# Altium integrated library ON Semi Zener Diodes.IntLib: 1366 symbols (part 24 of 29)
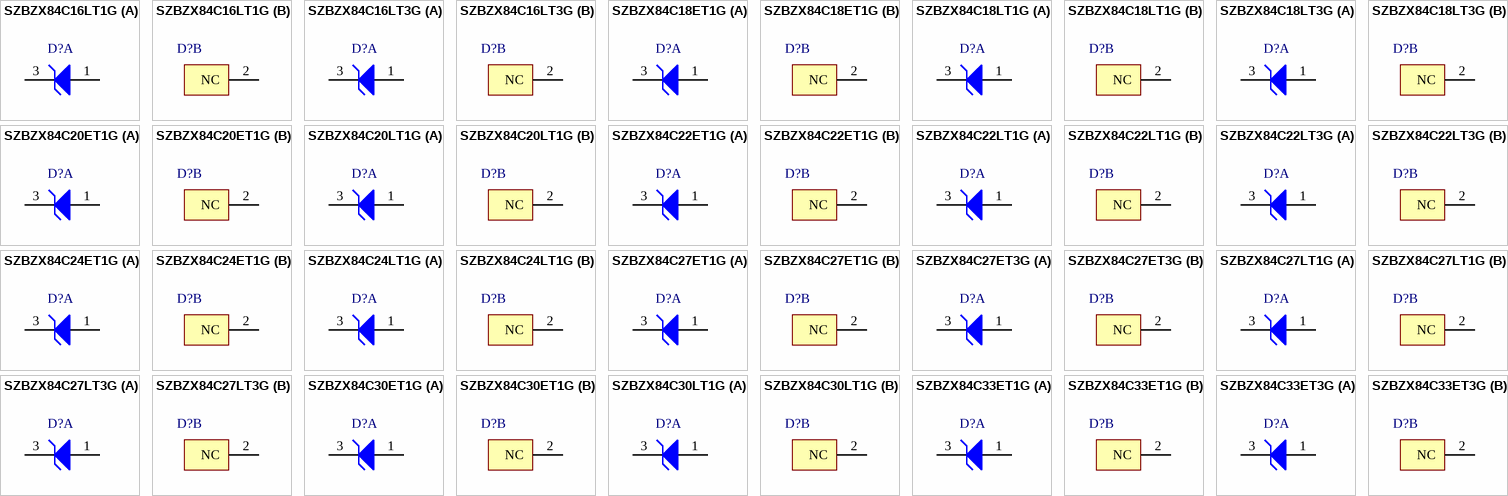
[diagram p67: symbols SZBZX84C16LT1G to SZBZX84C33ET3G]

## SZBZX84C22LT3G
designator D?
Zener Voltage Regulator, 225 mW, 3-Pin SOT-23, Pb-Free, Tape and Reel; Manufacturer: On Semiconductor; PartNumber: SZBZX84C22LT3G; DatasheetVersion: Rev. 17; PackageVersion: Rev. AP, 11/2009; PackageReference: SOT-23-3-318-08; PackageDescription: 3-Pin Small Outline Transistor, Body 2.92 x 1.3 mm, Pitch 0.95 mm; Supplier 1: Digi-Key; Supplier Part Number 1: SZBZX84C22LT3G-ND; Supplier 2: Mouser; Supplier Part Number 2: 863-SZBZX84C22LT3G; Packing: Tape and Reel; RoHS: Pb-Free; Mounting Technology: Surface Mount; ComponentLink1Description: Manufacturer URL; ComponentLink1URL: http://www.onsemi.com/; ComponentLink2Description: Datasheet; ComponentLink2URL: http://www.onsemi.com/pub_link/Collateral/BZX84C2V4LT1-D.PDF; ComponentLink3Description: Package Specification; ComponentLink3URL: http://www.onsemi.cn/pub_link/Collateral/318-08.PDF
footprint ONSC-SOT-23-3-318-08_V (SOT23, 3-Leads, Body 2.92x1.3mm, Pitch 0.95mm)
part A pins: 1 A, 3 K
part B pins: 2 NC

## SZBZX84C24ET1G
designator D?
Zener Voltage Regulator, 225 mW, 3-Pin SOT-23, Pb-Free, Tape and Reel; Manufacturer: On Semiconductor; PartNumber: SZBZX84C24ET1G; DatasheetVersion: Rev. 8; PackageVersion: Rev. AP, 11/2009; PackageReference: SOT-23-3-318-08; PackageDescription: 3-Pin Small Outline Transistor, Body 2.92 x 1.3 mm, Pitch 0.95 mm; Supplier 1: Digi-Key; Supplier Part Number 1: SZBZX84C24ET1G-ND; Supplier 2: Mouser; Supplier Part Number 2: 863-SZBZX84C24ET1G; Packing: Tape and Reel; RoHS: Pb-Free; Mounting Technology: Surface Mount; ComponentLink1Description: Manufacturer URL; ComponentLink1URL: http://www.onsemi.com/; ComponentLink2Description: Datasheet; ComponentLink2URL: http://www.onsemi.com/pub_link/Collateral/BZX84C2V4ET1-D.PDF; ComponentLink3Description: Package Specification; ComponentLink3URL: http://www.onsemi.cn/pub_link/Collateral/318-08.PDF
footprint ONSC-SOT-23-3-318-08_V (SOT23, 3-Leads, Body 2.92x1.3mm, Pitch 0.95mm)
part A pins: 1 A, 3 K
part B pins: 2 NC

## SZBZX84C24LT1G
designator D?
Zener Voltage Regulator, 225 mW, 3-Pin SOT-23, Pb-Free, Tape and Reel; Manufacturer: On Semiconductor; PartNumber: SZBZX84C24LT1G; DatasheetVersion: Rev. 17; PackageVersion: Rev. AP, 11/2009; PackageReference: SOT-23-3-318-08; PackageDescription: 3-Pin Small Outline Transistor, Body 2.92 x 1.3 mm, Pitch 0.95 mm; Supplier 1: Digi-Key; Supplier Part Number 1: SZBZX84C24LT1G-ND; Supplier 2: Mouser; Supplier Part Number 2: 863-SZBZX84C24LT1G; Packing: Tape and Reel; RoHS: Pb-Free; Mounting Technology: Surface Mount; ComponentLink1Description: Manufacturer URL; ComponentLink1URL: http://www.onsemi.com/; ComponentLink2Description: Datasheet; ComponentLink2URL: http://www.onsemi.com/pub_link/Collateral/BZX84C2V4LT1-D.PDF; ComponentLink3Description: Package Specification; ComponentLink3URL: http://www.onsemi.cn/pub_link/Collateral/318-08.PDF
footprint ONSC-SOT-23-3-318-08_V (SOT23, 3-Leads, Body 2.92x1.3mm, Pitch 0.95mm)
part A pins: 1 A, 3 K
part B pins: 2 NC

## SZBZX84C27ET1G
designator D?
Zener Voltage Regulator, 225 mW, 3-Pin SOT-23, Pb-Free, Tape and Reel; Manufacturer: On Semiconductor; PartNumber: SZBZX84C27ET1G; DatasheetVersion: Rev. 8; PackageVersion: Rev. AP, 11/2009; PackageReference: SOT-23-3-318-08; PackageDescription: 3-Pin Small Outline Transistor, Body 2.92 x 1.3 mm, Pitch 0.95 mm; Supplier 1: Digi-Key; Supplier Part Number 1: SZBZX84C27ET1G-ND; Supplier 2: Mouser; Supplier Part Number 2: 863-SZBZX84C27ET1G; Packing: Tape and Reel; RoHS: Pb-Free; Mounting Technology: Surface Mount; ComponentLink1Description: Manufacturer URL; ComponentLink1URL: http://www.onsemi.com/; ComponentLink2Description: Datasheet; ComponentLink2URL: http://www.onsemi.com/pub_link/Collateral/BZX84C2V4ET1-D.PDF; ComponentLink3Description: Package Specification; ComponentLink3URL: http://www.onsemi.cn/pub_link/Collateral/318-08.PDF
footprint ONSC-SOT-23-3-318-08_V (SOT23, 3-Leads, Body 2.92x1.3mm, Pitch 0.95mm)
part A pins: 1 A, 3 K
part B pins: 2 NC

## SZBZX84C27ET3G
designator D?
Zener Voltage Regulator, 225 mW, 3-Pin SOT-23, Pb-Free, Tape and Reel; Manufacturer: On Semiconductor; PartNumber: SZBZX84C27ET3G; DatasheetVersion: Rev. 8; PackageVersion: Rev. AP, 11/2009; PackageReference: SOT-23-3-318-08; PackageDescription: 3-Pin Small Outline Transistor, Body 2.92 x 1.3 mm, Pitch 0.95 mm; Supplier 1: Digi-Key; Supplier Part Number 1: SZBZX84C27ET3G-ND; Supplier 2: Mouser; Supplier Part Number 2: 863-SZBZX84C27ET3G; Packing: Tape and Reel; RoHS: Pb-Free; Mounting Technology: Surface Mount; ComponentLink1Description: Manufacturer URL; ComponentLink1URL: http://www.onsemi.com/; ComponentLink2Description: Datasheet; ComponentLink2URL: http://www.onsemi.com/pub_link/Collateral/BZX84C2V4ET1-D.PDF; ComponentLink3Description: Package Specification; ComponentLink3URL: http://www.onsemi.cn/pub_link/Collateral/318-08.PDF
footprint ONSC-SOT-23-3-318-08_V (SOT23, 3-Leads, Body 2.92x1.3mm, Pitch 0.95mm)
part A pins: 1 A, 3 K
part B pins: 2 NC

## SZBZX84C27LT1G
designator D?
Zener Voltage Regulator, 225 mW, 3-Pin SOT-23, Pb-Free, Tape and Reel; Manufacturer: On Semiconductor; PartNumber: SZBZX84C27LT1G; DatasheetVersion: Rev. 17; PackageVersion: Rev. AP, 11/2009; PackageReference: SOT-23-3-318-08; PackageDescription: 3-Pin Small Outline Transistor, Body 2.92 x 1.3 mm, Pitch 0.95 mm; Supplier 1: Digi-Key; Supplier Part Number 1: SZBZX84C27LT1G-ND; Supplier 2: Mouser; Supplier Part Number 2: 863-SZBZX84C27LT1G; Packing: Tape and Reel; RoHS: Pb-Free; Mounting Technology: Surface Mount; ComponentLink1Description: Manufacturer URL; ComponentLink1URL: http://www.onsemi.com/; ComponentLink2Description: Datasheet; ComponentLink2URL: http://www.onsemi.com/pub_link/Collateral/BZX84C2V4LT1-D.PDF; ComponentLink3Description: Package Specification; ComponentLink3URL: http://www.onsemi.cn/pub_link/Collateral/318-08.PDF
footprint ONSC-SOT-23-3-318-08_V (SOT23, 3-Leads, Body 2.92x1.3mm, Pitch 0.95mm)
part A pins: 1 A, 3 K
part B pins: 2 NC

## SZBZX84C27LT3G
designator D?
Zener Voltage Regulator, 225 mW, 3-Pin SOT-23, Pb-Free, Tape and Reel; Manufacturer: On Semiconductor; PartNumber: SZBZX84C27LT3G; DatasheetVersion: Rev. 17; PackageVersion: Rev. AP, 11/2009; PackageReference: SOT-23-3-318-08; PackageDescription: 3-Pin Small Outline Transistor, Body 2.92 x 1.3 mm, Pitch 0.95 mm; Supplier 1: Digi-Key; Supplier Part Number 1: SZBZX84C27LT3G-ND; Supplier 2: Mouser; Supplier Part Number 2: 863-SZBZX84C27LT3G; Packing: Tape and Reel; RoHS: Pb-Free; Mounting Technology: Surface Mount; ComponentLink1Description: Manufacturer URL; ComponentLink1URL: http://www.onsemi.com/; ComponentLink2Description: Datasheet; ComponentLink2URL: http://www.onsemi.com/pub_link/Collateral/BZX84C2V4LT1-D.PDF; ComponentLink3Description: Package Specification; ComponentLink3URL: http://www.onsemi.cn/pub_link/Collateral/318-08.PDF
footprint ONSC-SOT-23-3-318-08_V (SOT23, 3-Leads, Body 2.92x1.3mm, Pitch 0.95mm)
part A pins: 1 A, 3 K
part B pins: 2 NC

## SZBZX84C30ET1G
designator D?
Zener Voltage Regulator, 225 mW, 3-Pin SOT-23, Pb-Free, Tape and Reel; Manufacturer: On Semiconductor; PartNumber: SZBZX84C30ET1G; DatasheetVersion: Rev. 8; PackageVersion: Rev. AP, 11/2009; PackageReference: SOT-23-3-318-08; PackageDescription: 3-Pin Small Outline Transistor, Body 2.92 x 1.3 mm, Pitch 0.95 mm; Supplier 1: Digi-Key; Supplier Part Number 1: SZBZX84C30ET1G-ND; Supplier 2: Mouser; Supplier Part Number 2: 863-SZBZX84C30ET1G; Packing: Tape and Reel; RoHS: Pb-Free; Mounting Technology: Surface Mount; ComponentLink1Description: Manufacturer URL; ComponentLink1URL: http://www.onsemi.com/; ComponentLink2Description: Datasheet; ComponentLink2URL: http://www.onsemi.com/pub_link/Collateral/BZX84C2V4ET1-D.PDF; ComponentLink3Description: Package Specification; ComponentLink3URL: http://www.onsemi.cn/pub_link/Collateral/318-08.PDF
footprint ONSC-SOT-23-3-318-08_V (SOT23, 3-Leads, Body 2.92x1.3mm, Pitch 0.95mm)
part A pins: 1 A, 3 K
part B pins: 2 NC

## SZBZX84C30LT1G
designator D?
Zener Voltage Regulator, 225 mW, 3-Pin SOT-23, Pb-Free, Tape and Reel; Manufacturer: On Semiconductor; PartNumber: SZBZX84C30LT1G; DatasheetVersion: Rev. 17; PackageVersion: Rev. AP, 11/2009; PackageReference: SOT-23-3-318-08; PackageDescription: 3-Pin Small Outline Transistor, Body 2.92 x 1.3 mm, Pitch 0.95 mm; Supplier 1: Digi-Key; Supplier Part Number 1: SZBZX84C30LT1G-ND; Supplier 2: Mouser; Supplier Part Number 2: 863-SZBZX84C30LT1G; Packing: Tape and Reel; RoHS: Pb-Free; Mounting Technology: Surface Mount; ComponentLink1Description: Manufacturer URL; ComponentLink1URL: http://www.onsemi.com/; ComponentLink2Description: Datasheet; ComponentLink2URL: http://www.onsemi.com/pub_link/Collateral/BZX84C2V4LT1-D.PDF; ComponentLink3Description: Package Specification; ComponentLink3URL: http://www.onsemi.cn/pub_link/Collateral/318-08.PDF
footprint ONSC-SOT-23-3-318-08_V (SOT23, 3-Leads, Body 2.92x1.3mm, Pitch 0.95mm)
part A pins: 1 A, 3 K
part B pins: 2 NC

## SZBZX84C33ET1G
designator D?
Zener Voltage Regulator, 225 mW, 3-Pin SOT-23, Pb-Free, Tape and Reel; Manufacturer: On Semiconductor; PartNumber: SZBZX84C33ET1G; DatasheetVersion: Rev. 8; PackageVersion: Rev. AP, 11/2009; PackageReference: SOT-23-3-318-08; PackageDescription: 3-Pin Small Outline Transistor, Body 2.92 x 1.3 mm, Pitch 0.95 mm; Supplier 1: Digi-Key; Supplier Part Number 1: SZBZX84C33ET1G-ND; Supplier 2: Mouser; Supplier Part Number 2: 863-SZBZX84C33ET1G; Packing: Tape and Reel; RoHS: Pb-Free; Mounting Technology: Surface Mount; ComponentLink1Description: Manufacturer URL; ComponentLink1URL: http://www.onsemi.com/; ComponentLink2Description: Datasheet; ComponentLink2URL: http://www.onsemi.com/pub_link/Collateral/BZX84C2V4ET1-D.PDF; ComponentLink3Description: Package Specification; ComponentLink3URL: http://www.onsemi.cn/pub_link/Collateral/318-08.PDF
footprint ONSC-SOT-23-3-318-08_V (SOT23, 3-Leads, Body 2.92x1.3mm, Pitch 0.95mm)
part A pins: 1 A, 3 K
part B pins: 2 NC

## SZBZX84C33ET3G
designator D?
Zener Voltage Regulator, 225 mW, 3-Pin SOT-23, Pb-Free, Tape and Reel; Manufacturer: On Semiconductor; PartNumber: SZBZX84C33ET3G; DatasheetVersion: Rev. 8; PackageVersion: Rev. AP, 11/2009; PackageReference: SOT-23-3-318-08; PackageDescription: 3-Pin Small Outline Transistor, Body 2.92 x 1.3 mm, Pitch 0.95 mm; Supplier 1: Digi-Key; Supplier Part Number 1: SZBZX84C33ET3G-ND; Supplier 2: Mouser; Supplier Part Number 2: 863-SZBZX84C33ET3G; Packing: Tape and Reel; RoHS: Pb-Free; Mounting Technology: Surface Mount; ComponentLink1Description: Manufacturer URL; ComponentLink1URL: http://www.onsemi.com/; ComponentLink2Description: Datasheet; ComponentLink2URL: http://www.onsemi.com/pub_link/Collateral/BZX84C2V4ET1-D.PDF; ComponentLink3Description: Package Specification; ComponentLink3URL: http://www.onsemi.cn/pub_link/Collateral/318-08.PDF
footprint ONSC-SOT-23-3-318-08_V (SOT23, 3-Leads, Body 2.92x1.3mm, Pitch 0.95mm)
part A pins: 1 A, 3 K
part B pins: 2 NC

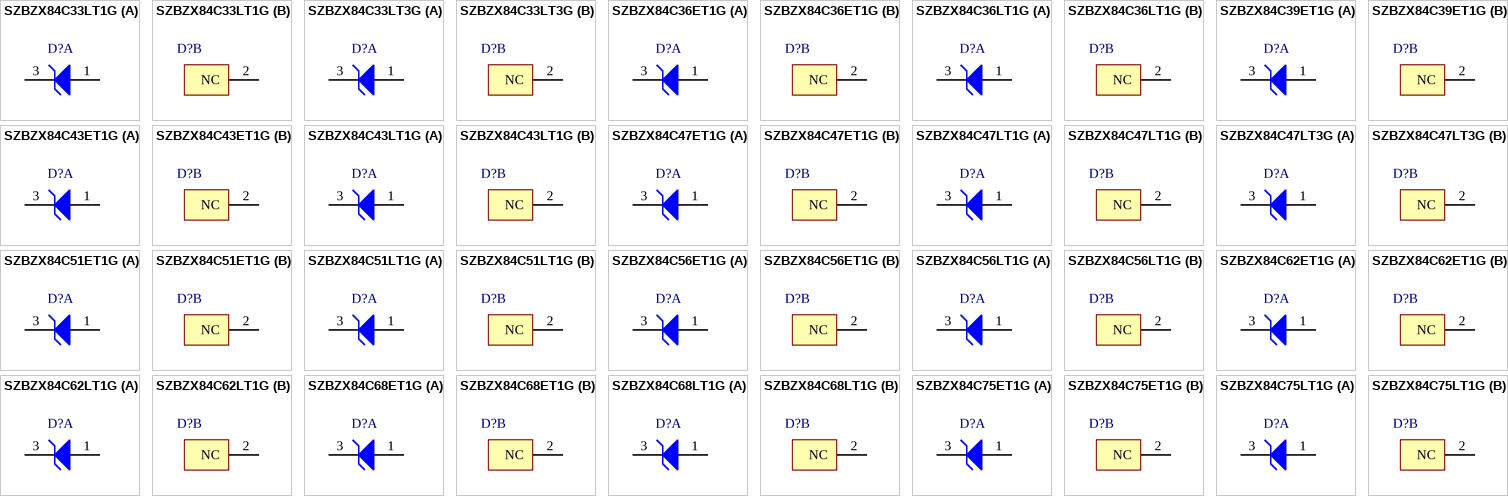
[diagram p35: symbols SZBZX84C33LT1G to SZBZX84C75LT1G]

## SZBZX84C33LT1G
designator D?
Zener Voltage Regulator, 225 mW, 3-Pin SOT-23, Pb-Free, Tape and Reel; Manufacturer: On Semiconductor; PartNumber: SZBZX84C33LT1G; DatasheetVersion: Rev. 17; PackageVersion: Rev. AP, 11/2009; PackageReference: SOT-23-3-318-08; PackageDescription: 3-Pin Small Outline Transistor, Body 2.92 x 1.3 mm, Pitch 0.95 mm; Supplier 1: Digi-Key; Supplier Part Number 1: SZBZX84C33LT1G-ND; Supplier 2: Mouser; Supplier Part Number 2: 863-SZBZX84C33LT1G; Packing: Tape and Reel; RoHS: Pb-Free; Mounting Technology: Surface Mount; ComponentLink1Description: Manufacturer URL; ComponentLink1URL: http://www.onsemi.com/; ComponentLink2Description: Datasheet; ComponentLink2URL: http://www.onsemi.com/pub_link/Collateral/BZX84C2V4LT1-D.PDF; ComponentLink3Description: Package Specification; ComponentLink3URL: http://www.onsemi.cn/pub_link/Collateral/318-08.PDF
footprint ONSC-SOT-23-3-318-08_V (SOT23, 3-Leads, Body 2.92x1.3mm, Pitch 0.95mm)
part A pins: 1 A, 3 K
part B pins: 2 NC

## SZBZX84C33LT3G
designator D?
Zener Voltage Regulator, 225 mW, 3-Pin SOT-23, Pb-Free, Tape and Reel; Manufacturer: On Semiconductor; PartNumber: SZBZX84C33LT3G; DatasheetVersion: Rev. 17; PackageVersion: Rev. AP, 11/2009; PackageReference: SOT-23-3-318-08; PackageDescription: 3-Pin Small Outline Transistor, Body 2.92 x 1.3 mm, Pitch 0.95 mm; Supplier 1: Digi-Key; Supplier Part Number 1: SZBZX84C33LT3G-ND; Supplier 2: Mouser; Supplier Part Number 2: 863-SZBZX84C33LT3G; Packing: Tape and Reel; RoHS: Pb-Free; Mounting Technology: Surface Mount; ComponentLink1Description: Manufacturer URL; ComponentLink1URL: http://www.onsemi.com/; ComponentLink2Description: Datasheet; ComponentLink2URL: http://www.onsemi.com/pub_link/Collateral/BZX84C2V4LT1-D.PDF; ComponentLink3Description: Package Specification; ComponentLink3URL: http://www.onsemi.cn/pub_link/Collateral/318-08.PDF
footprint ONSC-SOT-23-3-318-08_V (SOT23, 3-Leads, Body 2.92x1.3mm, Pitch 0.95mm)
part A pins: 1 A, 3 K
part B pins: 2 NC

## SZBZX84C36ET1G
designator D?
Zener Voltage Regulator, 225 mW, 3-Pin SOT-23, Pb-Free, Tape and Reel; Manufacturer: On Semiconductor; PartNumber: SZBZX84C36ET1G; DatasheetVersion: Rev. 8; PackageVersion: Rev. AP, 11/2009; PackageReference: SOT-23-3-318-08; PackageDescription: 3-Pin Small Outline Transistor, Body 2.92 x 1.3 mm, Pitch 0.95 mm; Supplier 1: Digi-Key; Supplier Part Number 1: SZBZX84C36ET1G-ND; Supplier 2: Mouser; Supplier Part Number 2: 863-SZBZX84C36ET1G; Packing: Tape and Reel; RoHS: Pb-Free; Mounting Technology: Surface Mount; ComponentLink1Description: Manufacturer URL; ComponentLink1URL: http://www.onsemi.com/; ComponentLink2Description: Datasheet; ComponentLink2URL: http://www.onsemi.com/pub_link/Collateral/BZX84C2V4ET1-D.PDF; ComponentLink3Description: Package Specification; ComponentLink3URL: http://www.onsemi.cn/pub_link/Collateral/318-08.PDF
footprint ONSC-SOT-23-3-318-08_V (SOT23, 3-Leads, Body 2.92x1.3mm, Pitch 0.95mm)
part A pins: 1 A, 3 K
part B pins: 2 NC

## SZBZX84C36LT1G
designator D?
Zener Voltage Regulator, 225 mW, 3-Pin SOT-23, Pb-Free, Tape and Reel; Manufacturer: On Semiconductor; PartNumber: SZBZX84C36LT1G; DatasheetVersion: Rev. 17; PackageVersion: Rev. AP, 11/2009; PackageReference: SOT-23-3-318-08; PackageDescription: 3-Pin Small Outline Transistor, Body 2.92 x 1.3 mm, Pitch 0.95 mm; Supplier 1: Digi-Key; Supplier Part Number 1: SZBZX84C36LT1G-ND; Supplier 2: Newark; Supplier Part Number 2: 76T7532; Supplier 3: Mouser; Supplier Part Number 3: 863-SZBZX84C36LT1G; Packing: Tape and Reel; RoHS: Pb-Free; Mounting Technology: Surface Mount; ComponentLink1Description: Manufacturer URL; ComponentLink1URL: http://www.onsemi.com/; ComponentLink2Description: Datasheet; ComponentLink2URL: http://www.onsemi.com/pub_link/Collateral/BZX84C2V4LT1-D.PDF; ComponentLink3Description: Package Specification; ComponentLink3URL: http://www.onsemi.cn/pub_link/Collateral/318-08.PDF
footprint ONSC-SOT-23-3-318-08_V (SOT23, 3-Leads, Body 2.92x1.3mm, Pitch 0.95mm)
part A pins: 1 A, 3 K
part B pins: 2 NC

## SZBZX84C39ET1G
designator D?
Zener Voltage Regulator, 225 mW, 3-Pin SOT-23, Pb-Free, Tape and Reel; Manufacturer: On Semiconductor; PartNumber: SZBZX84C39ET1G; DatasheetVersion: Rev. 8; PackageVersion: Rev. AP, 11/2009; PackageReference: SOT-23-3-318-08; PackageDescription: 3-Pin Small Outline Transistor, Body 2.92 x 1.3 mm, Pitch 0.95 mm; Supplier 1: Digi-Key; Supplier Part Number 1: SZBZX84C39ET1G-ND; Supplier 2: Mouser; Supplier Part Number 2: 863-SZBZX84C39ET1G; Packing: Tape and Reel; RoHS: Pb-Free; Mounting Technology: Surface Mount; ComponentLink1Description: Manufacturer URL; ComponentLink1URL: http://www.onsemi.com/; ComponentLink2Description: Datasheet; ComponentLink2URL: http://www.onsemi.com/pub_link/Collateral/BZX84C2V4ET1-D.PDF; ComponentLink3Description: Package Specification; ComponentLink3URL: http://www.onsemi.cn/pub_link/Collateral/318-08.PDF
footprint ONSC-SOT-23-3-318-08_V (SOT23, 3-Leads, Body 2.92x1.3mm, Pitch 0.95mm)
part A pins: 1 A, 3 K
part B pins: 2 NC

## SZBZX84C43ET1G
designator D?
Zener Voltage Regulator, 225 mW, 3-Pin SOT-23, Pb-Free, Tape and Reel; Manufacturer: On Semiconductor; PartNumber: SZBZX84C43ET1G; DatasheetVersion: Rev. 8; PackageVersion: Rev. AP, 11/2009; PackageReference: SOT-23-3-318-08; PackageDescription: 3-Pin Small Outline Transistor, Body 2.92 x 1.3 mm, Pitch 0.95 mm; Supplier 1: Digi-Key; Supplier Part Number 1: SZBZX84C43ET1G-ND; Supplier 2: Mouser; Supplier Part Number 2: 863-SZBZX84C43ET1G; Packing: Tape and Reel; RoHS: Pb-Free; Mounting Technology: Surface Mount; ComponentLink1Description: Manufacturer URL; ComponentLink1URL: http://www.onsemi.com/; ComponentLink2Description: Datasheet; ComponentLink2URL: http://www.onsemi.com/pub_link/Collateral/BZX84C2V4ET1-D.PDF; ComponentLink3Description: Package Specification; ComponentLink3URL: http://www.onsemi.cn/pub_link/Collateral/318-08.PDF
footprint ONSC-SOT-23-3-318-08_V (SOT23, 3-Leads, Body 2.92x1.3mm, Pitch 0.95mm)
part A pins: 1 A, 3 K
part B pins: 2 NC

## SZBZX84C43LT1G
designator D?
Zener Voltage Regulator, 225 mW, 3-Pin SOT-23, Pb-Free, Tape and Reel; Manufacturer: On Semiconductor; PartNumber: SZBZX84C43LT1G; DatasheetVersion: Rev. 17; PackageVersion: Rev. AP, 11/2009; PackageReference: SOT-23-3-318-08; PackageDescription: 3-Pin Small Outline Transistor, Body 2.92 x 1.3 mm, Pitch 0.95 mm; Supplier 1: Digi-Key; Supplier Part Number 1: SZBZX84C43LT1G-ND; Supplier 2: Mouser; Supplier Part Number 2: 863-SZBZX84C43LT1G; Packing: Tape and Reel; RoHS: Pb-Free; Mounting Technology: Surface Mount; ComponentLink1Description: Manufacturer URL; ComponentLink1URL: http://www.onsemi.com/; ComponentLink2Description: Datasheet; ComponentLink2URL: http://www.onsemi.com/pub_link/Collateral/BZX84C2V4LT1-D.PDF; ComponentLink3Description: Package Specification; ComponentLink3URL: http://www.onsemi.cn/pub_link/Collateral/318-08.PDF
footprint ONSC-SOT-23-3-318-08_V (SOT23, 3-Leads, Body 2.92x1.3mm, Pitch 0.95mm)
part A pins: 1 A, 3 K
part B pins: 2 NC

## SZBZX84C47ET1G
designator D?
Zener Voltage Regulator, 225 mW, 3-Pin SOT-23, Pb-Free, Tape and Reel; Manufacturer: On Semiconductor; PartNumber: SZBZX84C47ET1G; DatasheetVersion: Rev. 8; PackageVersion: Rev. AP, 11/2009; PackageReference: SOT-23-3-318-08; PackageDescription: 3-Pin Small Outline Transistor, Body 2.92 x 1.3 mm, Pitch 0.95 mm; Supplier 1: Digi-Key; Supplier Part Number 1: SZBZX84C47ET1G-ND; Supplier 2: Mouser; Supplier Part Number 2: 863-SZBZX84C47ET1G; Packing: Tape and Reel; RoHS: Pb-Free; Mounting Technology: Surface Mount; ComponentLink1Description: Manufacturer URL; ComponentLink1URL: http://www.onsemi.com/; ComponentLink2Description: Datasheet; ComponentLink2URL: http://www.onsemi.com/pub_link/Collateral/BZX84C2V4ET1-D.PDF; ComponentLink3Description: Package Specification; ComponentLink3URL: http://www.onsemi.cn/pub_link/Collateral/318-08.PDF
footprint ONSC-SOT-23-3-318-08_V (SOT23, 3-Leads, Body 2.92x1.3mm, Pitch 0.95mm)
part A pins: 1 A, 3 K
part B pins: 2 NC

## SZBZX84C47LT1G
designator D?
Zener Voltage Regulator, 225 mW, 3-Pin SOT-23, Pb-Free, Tape and Reel; Manufacturer: On Semiconductor; PartNumber: SZBZX84C47LT1G; DatasheetVersion: Rev. 17; PackageVersion: Rev. AP, 11/2009; PackageReference: SOT-23-3-318-08; PackageDescription: 3-Pin Small Outline Transistor, Body 2.92 x 1.3 mm, Pitch 0.95 mm; Supplier 1: Digi-Key; Supplier Part Number 1: SZBZX84C47LT1G-ND; Supplier 2: Mouser; Supplier Part Number 2: 863-SZBZX84C47LT1G; Packing: Tape and Reel; RoHS: Pb-Free; Mounting Technology: Surface Mount; ComponentLink1Description: Manufacturer URL; ComponentLink1URL: http://www.onsemi.com/; ComponentLink2Description: Datasheet; ComponentLink2URL: http://www.onsemi.com/pub_link/Collateral/BZX84C2V4LT1-D.PDF; ComponentLink3Description: Package Specification; ComponentLink3URL: http://www.onsemi.cn/pub_link/Collateral/318-08.PDF
footprint ONSC-SOT-23-3-318-08_V (SOT23, 3-Leads, Body 2.92x1.3mm, Pitch 0.95mm)
part A pins: 1 A, 3 K
part B pins: 2 NC

## SZBZX84C47LT3G
designator D?
Zener Voltage Regulator, 225 mW, 3-Pin SOT-23, Pb-Free, Tape and Reel; Manufacturer: On Semiconductor; PartNumber: SZBZX84C47LT3G; DatasheetVersion: Rev. 17; PackageVersion: Rev. AP, 11/2009; PackageReference: SOT-23-3-318-08; PackageDescription: 3-Pin Small Outline Transistor, Body 2.92 x 1.3 mm, Pitch 0.95 mm; Supplier 1: Digi-Key; Supplier Part Number 1: SZBZX84C47LT3G-ND; Supplier 2: Mouser; Supplier Part Number 2: 863-SZBZX84C47LT3G; Packing: Tape and Reel; RoHS: Pb-Free; Mounting Technology: Surface Mount; ComponentLink1Description: Manufacturer URL; ComponentLink1URL: http://www.onsemi.com/; ComponentLink2Description: Datasheet; ComponentLink2URL: http://www.onsemi.com/pub_link/Collateral/BZX84C2V4LT1-D.PDF; ComponentLink3Description: Package Specification; ComponentLink3URL: http://www.onsemi.cn/pub_link/Collateral/318-08.PDF
footprint ONSC-SOT-23-3-318-08_V (SOT23, 3-Leads, Body 2.92x1.3mm, Pitch 0.95mm)
part A pins: 1 A, 3 K
part B pins: 2 NC

## SZBZX84C51ET1G
designator D?
Zener Voltage Regulator, 225 mW, 3-Pin SOT-23, Pb-Free, Tape and Reel; Manufacturer: On Semiconductor; PartNumber: SZBZX84C51ET1G; DatasheetVersion: Rev. 8; PackageVersion: Rev. AP, 11/2009; PackageReference: SOT-23-3-318-08; PackageDescription: 3-Pin Small Outline Transistor, Body 2.92 x 1.3 mm, Pitch 0.95 mm; Supplier 1: Digi-Key; Supplier Part Number 1: SZBZX84C51ET1G-ND; Supplier 2: Mouser; Supplier Part Number 2: 863-SZBZX84C51ET1G; Packing: Tape and Reel; RoHS: Pb-Free; Mounting Technology: Surface Mount; ComponentLink1Description: Manufacturer URL; ComponentLink1URL: http://www.onsemi.com/; ComponentLink2Description: Datasheet; ComponentLink2URL: http://www.onsemi.com/pub_link/Collateral/BZX84C2V4ET1-D.PDF; ComponentLink3Description: Package Specification; ComponentLink3URL: http://www.onsemi.cn/pub_link/Collateral/318-08.PDF
footprint ONSC-SOT-23-3-318-08_V (SOT23, 3-Leads, Body 2.92x1.3mm, Pitch 0.95mm)
part A pins: 1 A, 3 K
part B pins: 2 NC

## SZBZX84C51LT1G
designator D?
Zener Voltage Regulator, 225 mW, 3-Pin SOT-23, Pb-Free, Tape and Reel; Manufacturer: On Semiconductor; PartNumber: SZBZX84C51LT1G; DatasheetVersion: Rev. 17; PackageVersion: Rev. AP, 11/2009; PackageReference: SOT-23-3-318-08; PackageDescription: 3-Pin Small Outline Transistor, Body 2.92 x 1.3 mm, Pitch 0.95 mm; Supplier 1: Digi-Key; Supplier Part Number 1: SZBZX84C51LT1G-ND; Supplier 2: Newark; Supplier Part Number 2: 76T7555; Supplier 3: Mouser; Supplier Part Number 3: 863-SZBZX84C51LT1G; Packing: Tape and Reel; RoHS: Pb-Free; Mounting Technology: Surface Mount; ComponentLink1Description: Manufacturer URL; ComponentLink1URL: http://www.onsemi.com/; ComponentLink2Description: Datasheet; ComponentLink2URL: http://www.onsemi.com/pub_link/Collateral/BZX84C2V4LT1-D.PDF; ComponentLink3Description: Package Specification; ComponentLink3URL: http://www.onsemi.cn/pub_link/Collateral/318-08.PDF
footprint ONSC-SOT-23-3-318-08_V (SOT23, 3-Leads, Body 2.92x1.3mm, Pitch 0.95mm)
part A pins: 1 A, 3 K
part B pins: 2 NC

## SZBZX84C56ET1G
designator D?
Zener Voltage Regulator, 225 mW, 3-Pin SOT-23, Pb-Free, Tape and Reel; Manufacturer: On Semiconductor; PartNumber: SZBZX84C56ET1G; DatasheetVersion: Rev. 8; PackageVersion: Rev. AP, 11/2009; PackageReference: SOT-23-3-318-08; PackageDescription: 3-Pin Small Outline Transistor, Body 2.92 x 1.3 mm, Pitch 0.95 mm; Supplier 1: Digi-Key; Supplier Part Number 1: SZBZX84C56ET1G-ND; Supplier 2: Mouser; Supplier Part Number 2: 863-SZBZX84C56ET1G; Packing: Tape and Reel; RoHS: Pb-Free; Mounting Technology: Surface Mount; ComponentLink1Description: Manufacturer URL; ComponentLink1URL: http://www.onsemi.com/; ComponentLink2Description: Datasheet; ComponentLink2URL: http://www.onsemi.com/pub_link/Collateral/BZX84C2V4ET1-D.PDF; ComponentLink3Description: Package Specification; ComponentLink3URL: http://www.onsemi.cn/pub_link/Collateral/318-08.PDF
footprint ONSC-SOT-23-3-318-08_V (SOT23, 3-Leads, Body 2.92x1.3mm, Pitch 0.95mm)
part A pins: 1 A, 3 K
part B pins: 2 NC

## SZBZX84C56LT1G
designator D?
Zener Voltage Regulator, 225 mW, 3-Pin SOT-23, Pb-Free, Tape and Reel; Manufacturer: On Semiconductor; PartNumber: SZBZX84C56LT1G; DatasheetVersion: Rev. 17; PackageVersion: Rev. AP, 11/2009; PackageReference: SOT-23-3-318-08; PackageDescription: 3-Pin Small Outline Transistor, Body 2.92 x 1.3 mm, Pitch 0.95 mm; Supplier 1: Digi-Key; Supplier Part Number 1: SZBZX84C56LT1G-ND; Supplier 2: Newark; Supplier Part Number 2: 76T7557; Supplier 3: Mouser; Supplier Part Number 3: 863-SZBZX84C56LT1G; Packing: Tape and Reel; RoHS: Pb-Free; Mounting Technology: Surface Mount; ComponentLink1Description: Manufacturer URL; ComponentLink1URL: http://www.onsemi.com/; ComponentLink2Description: Datasheet; ComponentLink2URL: http://www.onsemi.com/pub_link/Collateral/BZX84C2V4LT1-D.PDF; ComponentLink3Description: Package Specification; ComponentLink3URL: http://www.onsemi.cn/pub_link/Collateral/318-08.PDF
footprint ONSC-SOT-23-3-318-08_V (SOT23, 3-Leads, Body 2.92x1.3mm, Pitch 0.95mm)
part A pins: 1 A, 3 K
part B pins: 2 NC

## SZBZX84C62ET1G
designator D?
Zener Voltage Regulator, 225 mW, 3-Pin SOT-23, Pb-Free, Tape and Reel; Manufacturer: On Semiconductor; PartNumber: SZBZX84C62ET1G; DatasheetVersion: Rev. 8; PackageVersion: Rev. AP, 11/2009; PackageReference: SOT-23-3-318-08; PackageDescription: 3-Pin Small Outline Transistor, Body 2.92 x 1.3 mm, Pitch 0.95 mm; Supplier 1: Digi-Key; Supplier Part Number 1: SZBZX84C62ET1G-ND; Supplier 2: Mouser; Supplier Part Number 2: 863-SZBZX84C62ET1G; Packing: Tape and Reel; RoHS: Pb-Free; Mounting Technology: Surface Mount; ComponentLink1Description: Manufacturer URL; ComponentLink1URL: http://www.onsemi.com/; ComponentLink2Description: Datasheet; ComponentLink2URL: http://www.onsemi.com/pub_link/Collateral/BZX84C2V4ET1-D.PDF; ComponentLink3Description: Package Specification; ComponentLink3URL: http://www.onsemi.cn/pub_link/Collateral/318-08.PDF
footprint ONSC-SOT-23-3-318-08_V (SOT23, 3-Leads, Body 2.92x1.3mm, Pitch 0.95mm)
part A pins: 1 A, 3 K
part B pins: 2 NC

## SZBZX84C62LT1G
designator D?
Zener Voltage Regulator, 225 mW, 3-Pin SOT-23, Pb-Free, Tape and Reel; Manufacturer: On Semiconductor; PartNumber: SZBZX84C62LT1G; DatasheetVersion: Rev. 17; PackageVersion: Rev. AP, 11/2009; PackageReference: SOT-23-3-318-08; PackageDescription: 3-Pin Small Outline Transistor, Body 2.92 x 1.3 mm, Pitch 0.95 mm; Supplier 1: Digi-Key; Supplier Part Number 1: SZBZX84C62LT1G-ND; Supplier 2: Mouser; Supplier Part Number 2: 863-SZBZX84C62LT1G; Packing: Tape and Reel; RoHS: Pb-Free; Mounting Technology: Surface Mount; ComponentLink1Description: Manufacturer URL; ComponentLink1URL: http://www.onsemi.com/; ComponentLink2Description: Datasheet; ComponentLink2URL: http://www.onsemi.com/pub_link/Collateral/BZX84C2V4LT1-D.PDF; ComponentLink3Description: Package Specification; ComponentLink3URL: http://www.onsemi.cn/pub_link/Collateral/318-08.PDF
footprint ONSC-SOT-23-3-318-08_V (SOT23, 3-Leads, Body 2.92x1.3mm, Pitch 0.95mm)
part A pins: 1 A, 3 K
part B pins: 2 NC

## SZBZX84C68ET1G
designator D?
Zener Voltage Regulator, 225 mW, 3-Pin SOT-23, Pb-Free, Tape and Reel; Manufacturer: On Semiconductor; PartNumber: SZBZX84C68ET1G; DatasheetVersion: Rev. 8; PackageVersion: Rev. AP, 11/2009; PackageReference: SOT-23-3-318-08; PackageDescription: 3-Pin Small Outline Transistor, Body 2.92 x 1.3 mm, Pitch 0.95 mm; Supplier 1: Digi-Key; Supplier Part Number 1: SZBZX84C68ET1G-ND; Supplier 2: Mouser; Supplier Part Number 2: 863-SZBZX84C68ET1G; Packing: Tape and Reel; RoHS: Pb-Free; Mounting Technology: Surface Mount; ComponentLink1Description: Manufacturer URL; ComponentLink1URL: http://www.onsemi.com/; ComponentLink2Description: Datasheet; ComponentLink2URL: http://www.onsemi.com/pub_link/Collateral/BZX84C2V4ET1-D.PDF; ComponentLink3Description: Package Specification; ComponentLink3URL: http://www.onsemi.cn/pub_link/Collateral/318-08.PDF
footprint ONSC-SOT-23-3-318-08_V (SOT23, 3-Leads, Body 2.92x1.3mm, Pitch 0.95mm)
part A pins: 1 A, 3 K
part B pins: 2 NC

## SZBZX84C68LT1G
designator D?
Zener Voltage Regulator, 225 mW, 3-Pin SOT-23, Pb-Free, Tape and Reel; Manufacturer: On Semiconductor; PartNumber: SZBZX84C68LT1G; DatasheetVersion: Rev. 17; PackageVersion: Rev. AP, 11/2009; PackageReference: SOT-23-3-318-08; PackageDescription: 3-Pin Small Outline Transistor, Body 2.92 x 1.3 mm, Pitch 0.95 mm; Supplier 1: Digi-Key; Supplier Part Number 1: SZBZX84C68LT1G-ND; Supplier 2: Mouser; Supplier Part Number 2: 863-SZBZX84C68LT1G; Packing: Tape and Reel; RoHS: Pb-Free; Mounting Technology: Surface Mount; ComponentLink1Description: Manufacturer URL; ComponentLink1URL: http://www.onsemi.com/; ComponentLink2Description: Datasheet; ComponentLink2URL: http://www.onsemi.com/pub_link/Collateral/BZX84C2V4LT1-D.PDF; ComponentLink3Description: Package Specification; ComponentLink3URL: http://www.onsemi.cn/pub_link/Collateral/318-08.PDF
footprint ONSC-SOT-23-3-318-08_V (SOT23, 3-Leads, Body 2.92x1.3mm, Pitch 0.95mm)
part A pins: 1 A, 3 K
part B pins: 2 NC

## SZBZX84C75ET1G
designator D?
Zener Voltage Regulator, 225 mW, 3-Pin SOT-23, Pb-Free, Tape and Reel; Manufacturer: On Semiconductor; PartNumber: SZBZX84C75ET1G; DatasheetVersion: Rev. 8; PackageVersion: Rev. AP, 11/2009; PackageReference: SOT-23-3-318-08; PackageDescription: 3-Pin Small Outline Transistor, Body 2.92 x 1.3 mm, Pitch 0.95 mm; Supplier 1: Digi-Key; Supplier Part Number 1: SZBZX84C75ET1G-ND; Supplier 2: Mouser; Supplier Part Number 2: 863-SZBZX84C75ET1G; Packing: Tape and Reel; RoHS: Pb-Free; Mounting Technology: Surface Mount; ComponentLink1Description: Manufacturer URL; ComponentLink1URL: http://www.onsemi.com/; ComponentLink2Description: Datasheet; ComponentLink2URL: http://www.onsemi.com/pub_link/Collateral/BZX84C2V4ET1-D.PDF; ComponentLink3Description: Package Specification; ComponentLink3URL: http://www.onsemi.cn/pub_link/Collateral/318-08.PDF
footprint ONSC-SOT-23-3-318-08_V (SOT23, 3-Leads, Body 2.92x1.3mm, Pitch 0.95mm)
part A pins: 1 A, 3 K
part B pins: 2 NC

## SZBZX84C75LT1G
designator D?
Zener Voltage Regulator, 225 mW, 3-Pin SOT-23, Pb-Free, Tape and Reel; Manufacturer: On Semiconductor; PartNumber: SZBZX84C75LT1G; DatasheetVersion: Rev. 17; PackageVersion: Rev. AP, 11/2009; PackageReference: SOT-23-3-318-08; PackageDescription: 3-Pin Small Outline Transistor, Body 2.92 x 1.3 mm, Pitch 0.95 mm; Supplier 1: Digi-Key; Supplier Part Number 1: SZBZX84C75LT1G-ND; Supplier 2: Mouser; Supplier Part Number 2: 863-SZBZX84C75LT1G; Packing: Tape and Reel; RoHS: Pb-Free; Mounting Technology: Surface Mount; ComponentLink1Description: Manufacturer URL; ComponentLink1URL: http://www.onsemi.com/; ComponentLink2Description: Datasheet; ComponentLink2URL: http://www.onsemi.com/pub_link/Collateral/BZX84C2V4LT1-D.PDF; ComponentLink3Description: Package Specification; ComponentLink3URL: http://www.onsemi.cn/pub_link/Collateral/318-08.PDF
footprint ONSC-SOT-23-3-318-08_V (SOT23, 3-Leads, Body 2.92x1.3mm, Pitch 0.95mm)
part A pins: 1 A, 3 K
part B pins: 2 NC

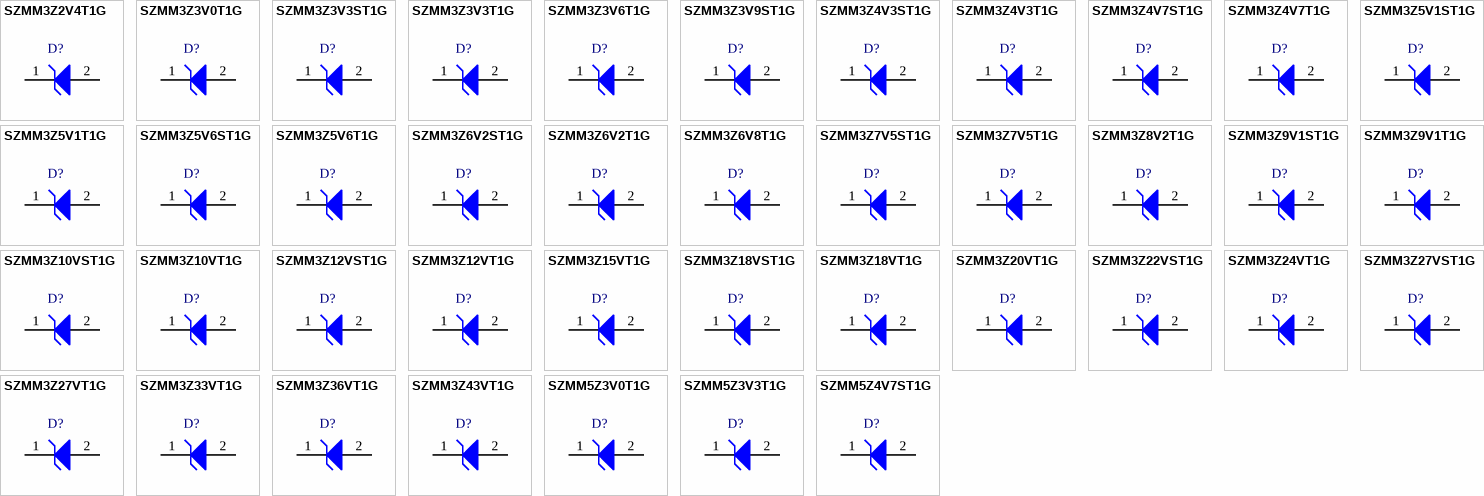
[diagram p36: symbols SZMM3Z2V4T1G to SZMM5Z4V7ST1G]

## SZMM3Z2V4T1G
designator D?
Zener Voltage Regulator, 300 mW, 2-Pin SOD-323, Pb-Free, Tape and Reel; Manufacturer: On Semiconductor; PartNumber: SZMM3Z2V4T1G; P Max (W): 0.3; VZ Typ (V): 2.4; DatasheetVersion: Rev. 9; PackageVersion: Rev. H, 03/2007; PackageReference: SOD-323-2-477-02; PackageDescription: 2-Pin SOD, Body 1.7 x 1.25 mm; Supplier 1: Digi-Key; Supplier Part Number 1: SZMM3Z2V4T1G-ND; Supplier 2: Mouser; Supplier Part Number 2: 863-SZMM3Z2V4T1G; Packing: Tape and Reel; RoHS: Pb-Free; Mounting Technology: Surface Mount; ComponentLink1Description: Manufacturer URL; ComponentLink1URL: http://www.onsemi.com/; ComponentLink2Description: Datasheet; ComponentLink2URL: http://www.onsemi.cn/pub_link/Collateral/MM3Z2V4T1-D.PDF; ComponentLink3Description: Package Specification; ComponentLink3URL: http://www.onsemi.com/pub_link/Collateral/477-02.PDF.1
footprint ONSC-SOD-323-2-477-02_V (SOD, 2-Leads, Body 1.7x1.25mm)
pins: 1 K, 2 A

## SZMM3Z3V0T1G
designator D?
Zener Voltage Regulator, 300 mW, 2-Pin SOD-323, Pb-Free, Tape and Reel; Manufacturer: On Semiconductor; PartNumber: SZMM3Z3V0T1G; P Max (W): 0.3; VZ Typ (V): 3; DatasheetVersion: Rev. 9; PackageVersion: Rev. H, 03/2007; PackageReference: SOD-323-2-477-02; PackageDescription: 2-Pin SOD, Body 1.7 x 1.25 mm; Packing: Tape and Reel; RoHS: Pb-Free; Mounting Technology: Surface Mount; ComponentLink1Description: Manufacturer URL; ComponentLink1URL: http://www.onsemi.com/; ComponentLink2Description: Datasheet; ComponentLink2URL: http://www.onsemi.cn/pub_link/Collateral/MM3Z2V4T1-D.PDF; ComponentLink3Description: Package Specification; ComponentLink3URL: http://www.onsemi.com/pub_link/Collateral/477-02.PDF.1
footprint ONSC-SOD-323-2-477-02_V (SOD, 2-Leads, Body 1.7x1.25mm)
pins: 1 K, 2 A

## SZMM3Z3V3ST1G
designator D?
Zener Voltage Regulator, 300 mW, Tight Tolerance Portfolio, 2-Pin SOD-323, Pb-Free, Tape and Reel; Manufacturer: On Semiconductor; PartNumber: SZMM3Z3V3ST1G; P Max (W): 0.3; DatasheetVersion: Rev. 21; PackageVersion: Rev. H, 03/2007; PackageReference: SOD-323-2-477-02; PackageDescription: 2-Pin SOD, Body 1.7 x 1.25 mm; Supplier 1: Digi-Key; Supplier Part Number 1: SZMM3Z3V3ST1G-ND; Supplier 2: Newark; Supplier Part Number 2: 76T7808; Supplier 3: Mouser; Supplier Part Number 3: 863-SZMM3Z3V3ST1G; Packing: Tape and Reel; RoHS: Pb-Free; Mounting Technology: Surface Mount; ComponentLink1Description: Manufacturer URL; ComponentLink1URL: http://www.onsemi.com/; ComponentLink2Description: Datasheet; ComponentLink2URL: http://www.onsemi.cn/pub_link/Collateral/MM3Z2V4ST1-D.PDF; ComponentLink3Description: Package Specification; ComponentLink3URL: http://www.onsemi.com/pub_link/Collateral/477-02.PDF.1
footprint ONSC-SOD-323-2-477-02_V (SOD, 2-Leads, Body 1.7x1.25mm)
pins: 1 K, 2 A

## SZMM3Z3V3T1G
designator D?
Zener Voltage Regulator, 300 mW, 2-Pin SOD-323, Pb-Free, Tape and Reel; Manufacturer: On Semiconductor; PartNumber: SZMM3Z3V3T1G; P Max (W): 0.3; VZ Typ (V): 3.3; DatasheetVersion: Rev. 9; PackageVersion: Rev. H, 03/2007; PackageReference: SOD-323-2-477-02; PackageDescription: 2-Pin SOD, Body 1.7 x 1.25 mm; Packing: Tape and Reel; RoHS: Pb-Free; Mounting Technology: Surface Mount; ComponentLink1Description: Manufacturer URL; ComponentLink1URL: http://www.onsemi.com/; ComponentLink2Description: Datasheet; ComponentLink2URL: http://www.onsemi.cn/pub_link/Collateral/MM3Z2V4T1-D.PDF; ComponentLink3Description: Package Specification; ComponentLink3URL: http://www.onsemi.com/pub_link/Collateral/477-02.PDF.1
footprint ONSC-SOD-323-2-477-02_V (SOD, 2-Leads, Body 1.7x1.25mm)
pins: 1 K, 2 A

## SZMM3Z3V6T1G
designator D?
Zener Voltage Regulator, 300 mW, 2-Pin SOD-323, Pb-Free, Tape and Reel; Manufacturer: On Semiconductor; PartNumber: SZMM3Z3V6T1G; P Max (W): 0.3; VZ Typ (V): 3.6; DatasheetVersion: Rev. 9; PackageVersion: Rev. H, 03/2007; PackageReference: SOD-323-2-477-02; PackageDescription: 2-Pin SOD, Body 1.7 x 1.25 mm; Supplier 1: Digi-Key; Supplier Part Number 1: SZMM3Z3V6T1G-ND; Supplier 2: Mouser; Supplier Part Number 2: 863-SZMM3Z3V6T1G; Packing: Tape and Reel; RoHS: Pb-Free; Mounting Technology: Surface Mount; ComponentLink1Description: Manufacturer URL; ComponentLink1URL: http://www.onsemi.com/; ComponentLink2Description: Datasheet; ComponentLink2URL: http://www.onsemi.cn/pub_link/Collateral/MM3Z2V4T1-D.PDF; ComponentLink3Description: Package Specification; ComponentLink3URL: http://www.onsemi.com/pub_link/Collateral/477-02.PDF.1
footprint ONSC-SOD-323-2-477-02_V (SOD, 2-Leads, Body 1.7x1.25mm)
pins: 1 K, 2 A

## SZMM3Z3V9ST1G
designator D?
Zener Voltage Regulator, 300 mW, Tight Tolerance Portfolio, 2-Pin SOD-323, Pb-Free, Tape and Reel; Manufacturer: On Semiconductor; PartNumber: SZMM3Z3V9ST1G; P Max (W): 0.3; DatasheetVersion: Rev. 21; PackageVersion: Rev. H, 03/2007; PackageReference: SOD-323-2-477-02; PackageDescription: 2-Pin SOD, Body 1.7 x 1.25 mm; Supplier 1: Digi-Key; Supplier Part Number 1: SZMM3Z3V9ST1G-ND; Supplier 2: Mouser; Supplier Part Number 2: 863-SZMM3Z3V9ST1G; Packing: Tape and Reel; RoHS: Pb-Free; Mounting Technology: Surface Mount; ComponentLink1Description: Manufacturer URL; ComponentLink1URL: http://www.onsemi.com/; ComponentLink2Description: Datasheet; ComponentLink2URL: http://www.onsemi.cn/pub_link/Collateral/MM3Z2V4ST1-D.PDF; ComponentLink3Description: Package Specification; ComponentLink3URL: http://www.onsemi.com/pub_link/Collateral/477-02.PDF.1
footprint ONSC-SOD-323-2-477-02_V (SOD, 2-Leads, Body 1.7x1.25mm)
pins: 1 K, 2 A

## SZMM3Z4V3ST1G
designator D?
Zener Voltage Regulator, 300 mW, Tight Tolerance Portfolio, 2-Pin SOD-323, Pb-Free, Tape and Reel; Manufacturer: On Semiconductor; PartNumber: SZMM3Z4V3ST1G; P Max (W): 0.3; DatasheetVersion: Rev. 21; PackageVersion: Rev. H, 03/2007; PackageReference: SOD-323-2-477-02; PackageDescription: 2-Pin SOD, Body 1.7 x 1.25 mm; Supplier 1: Newark; Supplier Part Number 1: 97W6502; Supplier 2: Mouser; Supplier Part Number 2: 863-SZMM3Z4V3ST1G; Packing: Tape and Reel; RoHS: Pb-Free; Mounting Technology: Surface Mount; ComponentLink1Description: Manufacturer URL; ComponentLink1URL: http://www.onsemi.com/; ComponentLink2Description: Datasheet; ComponentLink2URL: http://www.onsemi.cn/pub_link/Collateral/MM3Z2V4ST1-D.PDF; ComponentLink3Description: Package Specification; ComponentLink3URL: http://www.onsemi.com/pub_link/Collateral/477-02.PDF.1
footprint ONSC-SOD-323-2-477-02_V (SOD, 2-Leads, Body 1.7x1.25mm)
pins: 1 K, 2 A

## SZMM3Z4V3T1G
designator D?
Zener Voltage Regulator, 300 mW, 2-Pin SOD-323, Pb-Free, Tape and Reel; Manufacturer: On Semiconductor; PartNumber: SZMM3Z4V3T1G; P Max (W): 0.3; VZ Typ (V): 4.3; DatasheetVersion: Rev. 9; PackageVersion: Rev. H, 03/2007; PackageReference: SOD-323-2-477-02; PackageDescription: 2-Pin SOD, Body 1.7 x 1.25 mm; Supplier 1: Digi-Key; Supplier Part Number 1: SZMM3Z4V3T1G-ND; Supplier 2: Mouser; Supplier Part Number 2: 863-SZMM3Z4V3T1G; Packing: Tape and Reel; RoHS: Pb-Free; Mounting Technology: Surface Mount; ComponentLink1Description: Manufacturer URL; ComponentLink1URL: http://www.onsemi.com/; ComponentLink2Description: Datasheet; ComponentLink2URL: http://www.onsemi.cn/pub_link/Collateral/MM3Z2V4T1-D.PDF; ComponentLink3Description: Package Specification; ComponentLink3URL: http://www.onsemi.com/pub_link/Collateral/477-02.PDF.1
footprint ONSC-SOD-323-2-477-02_V (SOD, 2-Leads, Body 1.7x1.25mm)
pins: 1 K, 2 A

## SZMM3Z4V7ST1G
designator D?
Zener Voltage Regulator, 300 mW, Tight Tolerance Portfolio, 2-Pin SOD-323, Pb-Free, Tape and Reel; Manufacturer: On Semiconductor; PartNumber: SZMM3Z4V7ST1G; P Max (W): 0.3; DatasheetVersion: Rev. 21; PackageVersion: Rev. H, 03/2007; PackageReference: SOD-323-2-477-02; PackageDescription: 2-Pin SOD, Body 1.7 x 1.25 mm; Supplier 1: Digi-Key; Supplier Part Number 1: SZMM3Z4V7ST1G-ND; Supplier 2: Mouser; Supplier Part Number 2: 863-SZMM3Z4V7ST1G; Packing: Tape and Reel; RoHS: Pb-Free; Mounting Technology: Surface Mount; ComponentLink1Description: Manufacturer URL; ComponentLink1URL: http://www.onsemi.com/; ComponentLink2Description: Datasheet; ComponentLink2URL: http://www.onsemi.cn/pub_link/Collateral/MM3Z2V4ST1-D.PDF; ComponentLink3Description: Package Specification; ComponentLink3URL: http://www.onsemi.com/pub_link/Collateral/477-02.PDF.1
footprint ONSC-SOD-323-2-477-02_V (SOD, 2-Leads, Body 1.7x1.25mm)
pins: 1 K, 2 A

## SZMM3Z4V7T1G
designator D?
Zener Voltage Regulator, 300 mW, 2-Pin SOD-323, Pb-Free, Tape and Reel; Manufacturer: On Semiconductor; PartNumber: SZMM3Z4V7T1G; P Max (W): 0.3; VZ Typ (V): 4.7; DatasheetVersion: Rev. 9; PackageVersion: Rev. H, 03/2007; PackageReference: SOD-323-2-477-02; PackageDescription: 2-Pin SOD, Body 1.7 x 1.25 mm; Supplier 1: Digi-Key; Supplier Part Number 1: SZMM3Z4V7T1G-ND; Supplier 2: Newark; Supplier Part Number 2: 76T7814; Supplier 3: Mouser; Supplier Part Number 3: 863-SZMM3Z4V7T1G; Packing: Tape and Reel; RoHS: Pb-Free; Mounting Technology: Surface Mount; ComponentLink1Description: Manufacturer URL; ComponentLink1URL: http://www.onsemi.com/; ComponentLink2Description: Datasheet; ComponentLink2URL: http://www.onsemi.cn/pub_link/Collateral/MM3Z2V4T1-D.PDF; ComponentLink3Description: Package Specification; ComponentLink3URL: http://www.onsemi.com/pub_link/Collateral/477-02.PDF.1
footprint ONSC-SOD-323-2-477-02_V (SOD, 2-Leads, Body 1.7x1.25mm)
pins: 1 K, 2 A

## SZMM3Z5V1ST1G
designator D?
Zener Voltage Regulator, 300 mW, Tight Tolerance Portfolio, 2-Pin SOD-323, Pb-Free, Tape and Reel; Manufacturer: On Semiconductor; PartNumber: SZMM3Z5V1ST1G; P Max (W): 0.3; DatasheetVersion: Rev. 21; PackageVersion: Rev. H, 03/2007; PackageReference: SOD-323-2-477-02; PackageDescription: 2-Pin SOD, Body 1.7 x 1.25 mm; Supplier 1: Digi-Key; Supplier Part Number 1: SZMM3Z5V1ST1G-ND; Supplier 2: Newark; Supplier Part Number 2: 76T7816; Supplier 3: Mouser; Supplier Part Number 3: 863-SZMM3Z5V1ST1G; Packing: Tape and Reel; RoHS: Pb-Free; Mounting Technology: Surface Mount; ComponentLink1Description: Manufacturer URL; ComponentLink1URL: http://www.onsemi.com/; ComponentLink2Description: Datasheet; ComponentLink2URL: http://www.onsemi.cn/pub_link/Collateral/MM3Z2V4ST1-D.PDF; ComponentLink3Description: Package Specification; ComponentLink3URL: http://www.onsemi.com/pub_link/Collateral/477-02.PDF.1
footprint ONSC-SOD-323-2-477-02_V (SOD, 2-Leads, Body 1.7x1.25mm)
pins: 1 K, 2 A

## SZMM3Z5V1T1G
designator D?
Zener Voltage Regulator, 300 mW, 2-Pin SOD-323, Pb-Free, Tape and Reel; Manufacturer: On Semiconductor; PartNumber: SZMM3Z5V1T1G; P Max (W): 0.3; VZ Typ (V): 5.1; DatasheetVersion: Rev. 9; PackageVersion: Rev. H, 03/2007; PackageReference: SOD-323-2-477-02; PackageDescription: 2-Pin SOD, Body 1.7 x 1.25 mm; Supplier 1: Digi-Key; Supplier Part Number 1: SZMM3Z5V1T1G-ND; Supplier 2: Mouser; Supplier Part Number 2: 863-SZMM3Z5V1T1G; Packing: Tape and Reel; RoHS: Pb-Free; Mounting Technology: Surface Mount; ComponentLink1Description: Manufacturer URL; ComponentLink1URL: http://www.onsemi.com/; ComponentLink2Description: Datasheet; ComponentLink2URL: http://www.onsemi.cn/pub_link/Collateral/MM3Z2V4T1-D.PDF; ComponentLink3Description: Package Specification; ComponentLink3URL: http://www.onsemi.com/pub_link/Collateral/477-02.PDF.1
footprint ONSC-SOD-323-2-477-02_V (SOD, 2-Leads, Body 1.7x1.25mm)
pins: 1 K, 2 A

## SZMM3Z5V6ST1G
designator D?
Zener Voltage Regulator, 300 mW, Tight Tolerance Portfolio, 2-Pin SOD-323, Pb-Free, Tape and Reel; Manufacturer: On Semiconductor; PartNumber: SZMM3Z5V6ST1G; P Max (W): 0.3; DatasheetVersion: Rev. 21; PackageVersion: Rev. H, 03/2007; PackageReference: SOD-323-2-477-02; PackageDescription: 2-Pin SOD, Body 1.7 x 1.25 mm; Supplier 1: Digi-Key; Supplier Part Number 1: SZMM3Z5V6ST1G-ND; Supplier 2: Newark; Supplier Part Number 2: 76T7818; Supplier 3: Mouser; Supplier Part Number 3: 863-SZMM3Z5V6ST1G; Packing: Tape and Reel; RoHS: Pb-Free; Mounting Technology: Surface Mount; ComponentLink1Description: Manufacturer URL; ComponentLink1URL: http://www.onsemi.com/; ComponentLink2Description: Datasheet; ComponentLink2URL: http://www.onsemi.cn/pub_link/Collateral/MM3Z2V4ST1-D.PDF; ComponentLink3Description: Package Specification; ComponentLink3URL: http://www.onsemi.com/pub_link/Collateral/477-02.PDF.1
footprint ONSC-SOD-323-2-477-02_V (SOD, 2-Leads, Body 1.7x1.25mm)
pins: 1 K, 2 A

## SZMM3Z5V6T1G
designator D?
Zener Voltage Regulator, 300 mW, 2-Pin SOD-323, Pb-Free, Tape and Reel; Manufacturer: On Semiconductor; PartNumber: SZMM3Z5V6T1G; P Max (W): 0.3; VZ Typ (V): 5.6; DatasheetVersion: Rev. 9; PackageVersion: Rev. H, 03/2007; PackageReference: SOD-323-2-477-02; PackageDescription: 2-Pin SOD, Body 1.7 x 1.25 mm; Supplier 1: Digi-Key; Supplier Part Number 1: SZMM3Z5V6T1G-ND; Supplier 2: Mouser; Supplier Part Number 2: 863-SZMM3Z5V6T1G; Packing: Tape and Reel; RoHS: Pb-Free; Mounting Technology: Surface Mount; ComponentLink1Description: Manufacturer URL; ComponentLink1URL: http://www.onsemi.com/; ComponentLink2Description: Datasheet; ComponentLink2URL: http://www.onsemi.cn/pub_link/Collateral/MM3Z2V4T1-D.PDF; ComponentLink3Description: Package Specification; ComponentLink3URL: http://www.onsemi.com/pub_link/Collateral/477-02.PDF.1
footprint ONSC-SOD-323-2-477-02_V (SOD, 2-Leads, Body 1.7x1.25mm)
pins: 1 K, 2 A

## SZMM3Z6V2ST1G
designator D?
Zener Voltage Regulator, 300 mW, Tight Tolerance Portfolio, 2-Pin SOD-323, Pb-Free, Tape and Reel; Manufacturer: On Semiconductor; PartNumber: SZMM3Z6V2ST1G; P Max (W): 0.3; DatasheetVersion: Rev. 21; PackageVersion: Rev. H, 03/2007; PackageReference: SOD-323-2-477-02; PackageDescription: 2-Pin SOD, Body 1.7 x 1.25 mm; Supplier 1: Digi-Key; Supplier Part Number 1: SZMM3Z6V2ST1G-ND; Supplier 2: Mouser; Supplier Part Number 2: 863-SZMM3Z6V2ST1G; Packing: Tape and Reel; RoHS: Pb-Free; Mounting Technology: Surface Mount; ComponentLink1Description: Manufacturer URL; ComponentLink1URL: http://www.onsemi.com/; ComponentLink2Description: Datasheet; ComponentLink2URL: http://www.onsemi.cn/pub_link/Collateral/MM3Z2V4ST1-D.PDF; ComponentLink3Description: Package Specification; ComponentLink3URL: http://www.onsemi.com/pub_link/Collateral/477-02.PDF.1
footprint ONSC-SOD-323-2-477-02_V (SOD, 2-Leads, Body 1.7x1.25mm)
pins: 1 K, 2 A

## SZMM3Z6V2T1G
designator D?
Zener Voltage Regulator, 300 mW, 2-Pin SOD-323, Pb-Free, Tape and Reel; Manufacturer: On Semiconductor; PartNumber: SZMM3Z6V2T1G; P Max (W): 0.3; VZ Typ (V): 6.2; DatasheetVersion: Rev. 9; PackageVersion: Rev. H, 03/2007; PackageReference: SOD-323-2-477-02; PackageDescription: 2-Pin SOD, Body 1.7 x 1.25 mm; Supplier 1: Digi-Key; Supplier Part Number 1: SZMM3Z6V2T1G-ND; Supplier 2: Newark; Supplier Part Number 2: 76T7821; Supplier 3: Mouser; Supplier Part Number 3: 863-SZMM3Z6V2T1G; Packing: Tape and Reel; RoHS: Pb-Free; Mounting Technology: Surface Mount; ComponentLink1Description: Manufacturer URL; ComponentLink1URL: http://www.onsemi.com/; ComponentLink2Description: Datasheet; ComponentLink2URL: http://www.onsemi.cn/pub_link/Collateral/MM3Z2V4T1-D.PDF; ComponentLink3Description: Package Specification; ComponentLink3URL: http://www.onsemi.com/pub_link/Collateral/477-02.PDF.1
footprint ONSC-SOD-323-2-477-02_V (SOD, 2-Leads, Body 1.7x1.25mm)
pins: 1 K, 2 A

## SZMM3Z6V8T1G
designator D?
Zener Voltage Regulator, 300 mW, 2-Pin SOD-323, Pb-Free, Tape and Reel; Manufacturer: On Semiconductor; PartNumber: SZMM3Z6V8T1G; P Max (W): 0.3; VZ Typ (V): 6.8; DatasheetVersion: Rev. 9; PackageVersion: Rev. H, 03/2007; PackageReference: SOD-323-2-477-02; PackageDescription: 2-Pin SOD, Body 1.7 x 1.25 mm; Supplier 1: Digi-Key; Supplier Part Number 1: SZMM3Z6V8T1G-ND; Supplier 2: Mouser; Supplier Part Number 2: 863-SZMM3Z6V8T1G; Packing: Tape and Reel; RoHS: Pb-Free; Mounting Technology: Surface Mount; ComponentLink1Description: Manufacturer URL; ComponentLink1URL: http://www.onsemi.com/; ComponentLink2Description: Datasheet; ComponentLink2URL: http://www.onsemi.cn/pub_link/Collateral/MM3Z2V4T1-D.PDF; ComponentLink3Description: Package Specification; ComponentLink3URL: http://www.onsemi.com/pub_link/Collateral/477-02.PDF.1
footprint ONSC-SOD-323-2-477-02_V (SOD, 2-Leads, Body 1.7x1.25mm)
pins: 1 K, 2 A

## SZMM3Z7V5ST1G
designator D?
Zener Voltage Regulator, 300 mW, Tight Tolerance Portfolio, 2-Pin SOD-323, Pb-Free, Tape and Reel; Manufacturer: On Semiconductor; PartNumber: SZMM3Z7V5ST1G; P Max (W): 0.3; DatasheetVersion: Rev. 21; PackageVersion: Rev. H, 03/2007; PackageReference: SOD-323-2-477-02; PackageDescription: 2-Pin SOD, Body 1.7 x 1.25 mm; Packing: Tape and Reel; RoHS: Pb-Free; Mounting Technology: Surface Mount; ComponentLink1Description: Manufacturer URL; ComponentLink1URL: http://www.onsemi.com/; ComponentLink2Description: Datasheet; ComponentLink2URL: http://www.onsemi.cn/pub_link/Collateral/MM3Z2V4ST1-D.PDF; ComponentLink3Description: Package Specification; ComponentLink3URL: http://www.onsemi.com/pub_link/Collateral/477-02.PDF.1
footprint ONSC-SOD-323-2-477-02_V (SOD, 2-Leads, Body 1.7x1.25mm)
pins: 1 K, 2 A

## SZMM3Z7V5T1G
designator D?
Zener Voltage Regulator, 300 mW, 2-Pin SOD-323, Pb-Free, Tape and Reel; Manufacturer: On Semiconductor; PartNumber: SZMM3Z7V5T1G; P Max (W): 0.3; VZ Typ (V): 7.5; DatasheetVersion: Rev. 9; PackageVersion: Rev. H, 03/2007; PackageReference: SOD-323-2-477-02; PackageDescription: 2-Pin SOD, Body 1.7 x 1.25 mm; Supplier 1: Digi-Key; Supplier Part Number 1: SZMM3Z7V5T1G-ND; Supplier 2: Mouser; Supplier Part Number 2: 863-SZMM3Z7V5T1G; Packing: Tape and Reel; RoHS: Pb-Free; Mounting Technology: Surface Mount; ComponentLink1Description: Manufacturer URL; ComponentLink1URL: http://www.onsemi.com/; ComponentLink2Description: Datasheet; ComponentLink2URL: http://www.onsemi.cn/pub_link/Collateral/MM3Z2V4T1-D.PDF; ComponentLink3Description: Package Specification; ComponentLink3URL: http://www.onsemi.com/pub_link/Collateral/477-02.PDF.1
footprint ONSC-SOD-323-2-477-02_V (SOD, 2-Leads, Body 1.7x1.25mm)
pins: 1 K, 2 A